# Altium footprint library PCB - CONNECTOR - HARWIN - HARWIN M20-7820745.PcbLib: 1 footprints
Each footprint in its own frame and in the unit in brackets; x right, y up, seen from the top. Pads: shape width x height; smd on the part's side, far side on the other; paste and mask are expansions set on the pad; w line width, h text height; cw(c..) or ccw(c..) is an arc to the next point about the centre after c.
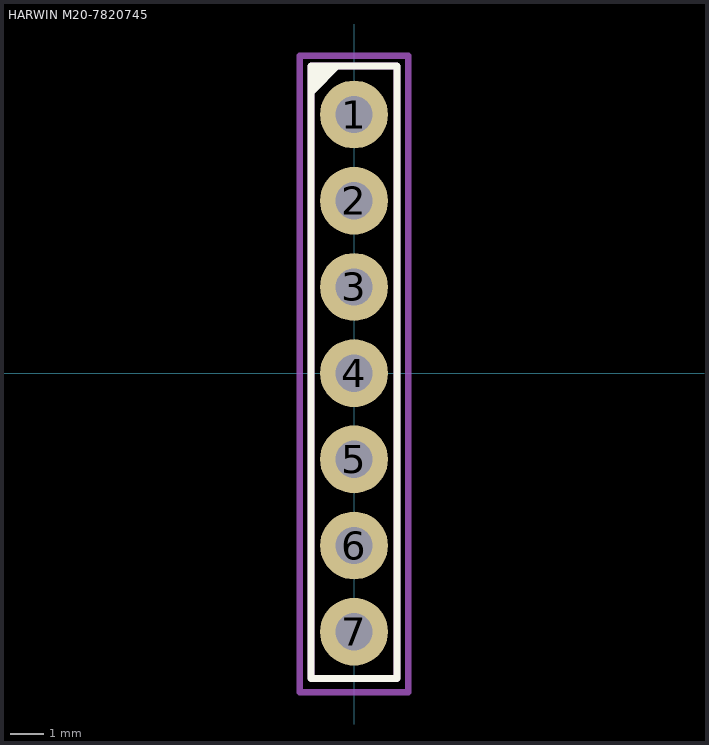
[diagram p0: the footprint, top view; thin cyan lines are the x and y axes]

## HARWIN M20-7820745 [mm] "2.54mm DIL PC TAIL PIN HEADER ASSEMBLY"
height 5
pads (7):
  round 2 hole 1.1: 1(0,7.62) 2(0,5.08) 3(0,2.54) 4(0,0) 5(0,-2.54) 6(0,-5.08) 7(0,-7.62)
Top Overlay:
  region: -1.23,9.08 -1.23,8.18 -0.33,9.08
  lines w0.2: -1.27,-9 1.27,-9 1.27,9.05 -1.27,9.05 -1.27,-9
Top Assembly:
  lines w0.2: -0.5,0 0.5,0 ; 0,-0.5 0,0.5 ; -1.27,-9 1.27,-9 1.27,9.05 -1.27,9.05 -1.27,-9
Top Courtyard (Mech15):
  lines w0.2: -1.6,-9.4 1.6,-9.4 1.6,9.35 -1.6,9.35 -1.6,-9.4
3D body "M20-7820742.step": height 8.5, standoff -3, extent -1.25,-9.09 1.25,9.09